# EAGLE library part LED_BARGRAPH_10 (library LEDs)
10-Segment LED Bar Graph SFE part numbers: COM-09935 (red, Vf = 2.1V, Ifmax = 20mA) COM-09936 (yellow, Vf = 2.1V, Ifmax = 20mA) COM-09937 (blue, Vf = 3.4V, Ifmax = 20mA) COM-09938 (green, Vf = 3.4V, Ifmax = 20mA)
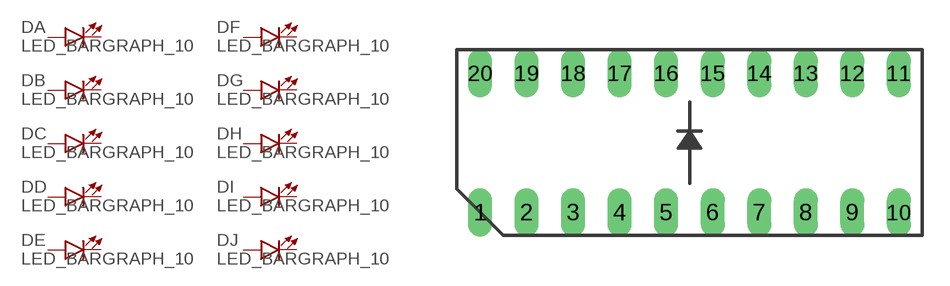
[diagram p0: symbol with the pads of LED_BARGAPH_10; footprint LED_BARGAPH_10]

Designator prefix D; gates A=LED_BARGRAPH_10 B=LED_BARGRAPH_10 C=LED_BARGRAPH_10 D=LED_BARGRAPH_10 E=LED_BARGRAPH_10 F=LED_BARGRAPH_10 G=LED_BARGRAPH_10 H=LED_BARGRAPH_10 I=LED_BARGRAPH_10 J=LED_BARGRAPH_10

## LED_BARGRAPH_10  [LED_BARGAPH_10]
1  A:A  pas
2  B:A  pas
3  C:A  pas
4  D:A  pas
5  E:A  pas
6  F:A  pas
7  G:A  pas
8  H:A  pas
9  I:A  pas
10  J:A  pas
11  J:C  pas
12  I:C  pas
13  H:C  pas
14  G:C  pas
15  F:C  pas
16  E:C  pas
17  D:C  pas
18  C:C  pas
19  B:C  pas
20  A:C  pas

## Footprint LED_BARGAPH_10 (pad centres in mm)
Dual In Line Package
drill 0.813 long: 1 -11.43,-3.81; 2 -8.89,-3.81; 3 -6.35,-3.81; 4 -3.81,-3.81; 5 -1.27,-3.81; 6 1.27,-3.81; 7 3.81,-3.81; 8 6.35,-3.81; 9 8.89,-3.81; 10 11.43,-3.81; 11 11.43,3.81; 12 8.89,3.81; 13 6.35,3.81; 14 3.81,3.81; 15 1.27,3.81; 16 -1.27,3.81; 17 -3.81,3.81; 18 -6.35,3.81; 19 -8.89,3.81; 20 -11.43,3.81